# EAGLE library part FLASHFRAM (library doz)
Платка с флэш и фрам
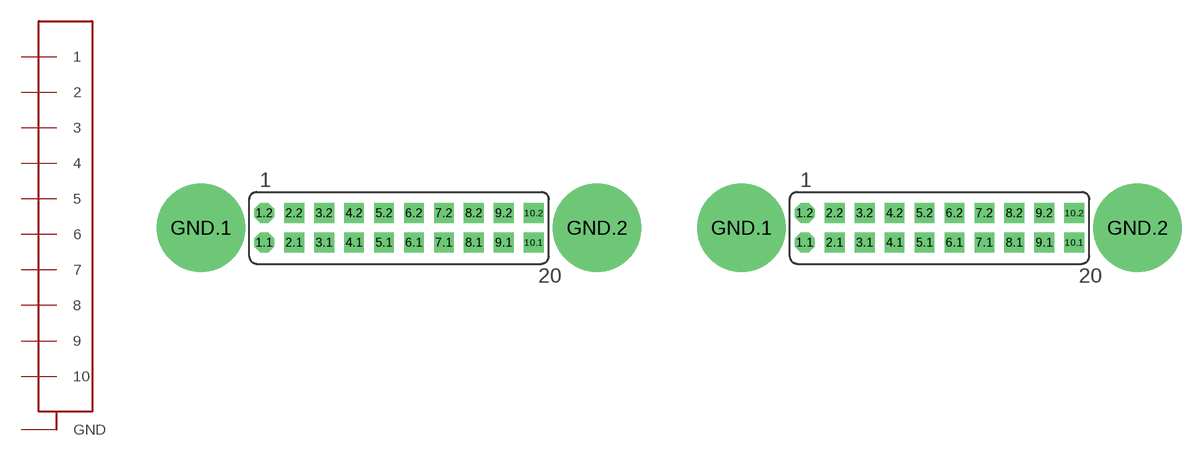
[diagram p17: symbol with the pads of FLASHFRAM_FULL; footprints FLASHFRAM_FULL, FLASHFRAM]

Designator prefix -

## FLASHFRAMFULL  [FLASHFRAM_FULL]
1.1  1
1.2  1
2.1  2
2.2  2
3.1  3
3.2  3
4.1  4
4.2  4
5.1  5
5.2  5
6.1  6
6.2  6
7.1  7
7.2  7
8.1  8
8.2  8
9.1  9
9.2  9
10.1  10
10.2  10
GND.1  GND
GND.2  GND

## FLASHFRAM  [FLASHFRAM]
Pads as for FLASHFRAM_FULL

## Footprint FLASHFRAM_FULL (pad centres in mm)
drill 1 pad 1.676 octagon: 1.1 -11.43,-1.25; 1.2 -11.43,1.25
drill 1 pad 1.676 square: 2.1 -8.89,-1.25; 2.2 -8.89,1.25; 3.1 -6.35,-1.25; 3.2 -6.35,1.25; 4.1 -3.81,-1.25; 4.2 -3.81,1.25; 5.1 -1.27,-1.25; 5.2 -1.27,1.25; 6.1 1.27,-1.25; 6.2 1.27,1.25; 7.1 3.81,-1.25; 7.2 3.81,1.25; 8.1 6.35,-1.25; 8.2 6.35,1.25; 9.1 8.89,-1.25; 9.2 8.89,1.25; 10.1 11.43,-1.25; 10.2 11.43,1.25
drill 3.2 pad 7.5: GND.1 -16.8,0; GND.2 16.8,0

## Footprint FLASHFRAM (pad centres in mm)
drill 1 pad 1.676 octagon: 1.1 -11.43,-1.25; 1.2 -11.43,1.25
drill 1 pad 1.676 square: 2.1 -8.89,-1.25; 2.2 -8.89,1.25; 3.1 -6.35,-1.25; 3.2 -6.35,1.25; 4.1 -3.81,-1.25; 4.2 -3.81,1.25; 5.1 -1.27,-1.25; 5.2 -1.27,1.25; 6.1 1.27,-1.25; 6.2 1.27,1.25; 7.1 3.81,-1.25; 7.2 3.81,1.25; 8.1 6.35,-1.25; 8.2 6.35,1.25; 9.1 8.89,-1.25; 9.2 8.89,1.25; 10.1 11.43,-1.25; 10.2 11.43,1.25
drill 3.2 pad 7.5: GND.1 -16.8,0; GND.2 16.8,0